# Altium footprint library Package_SO.PcbLib: 393 footprints (part 3 of 25)
Each footprint in its own frame and in the unit in brackets; x right, y up, seen from the top. Pads: shape width x height; smd on the part's side, far side on the other; paste and mask are expansions set on the pad; w line width, h text height; cw(c..) or ccw(c..) is an arc to the next point about the centre after c.
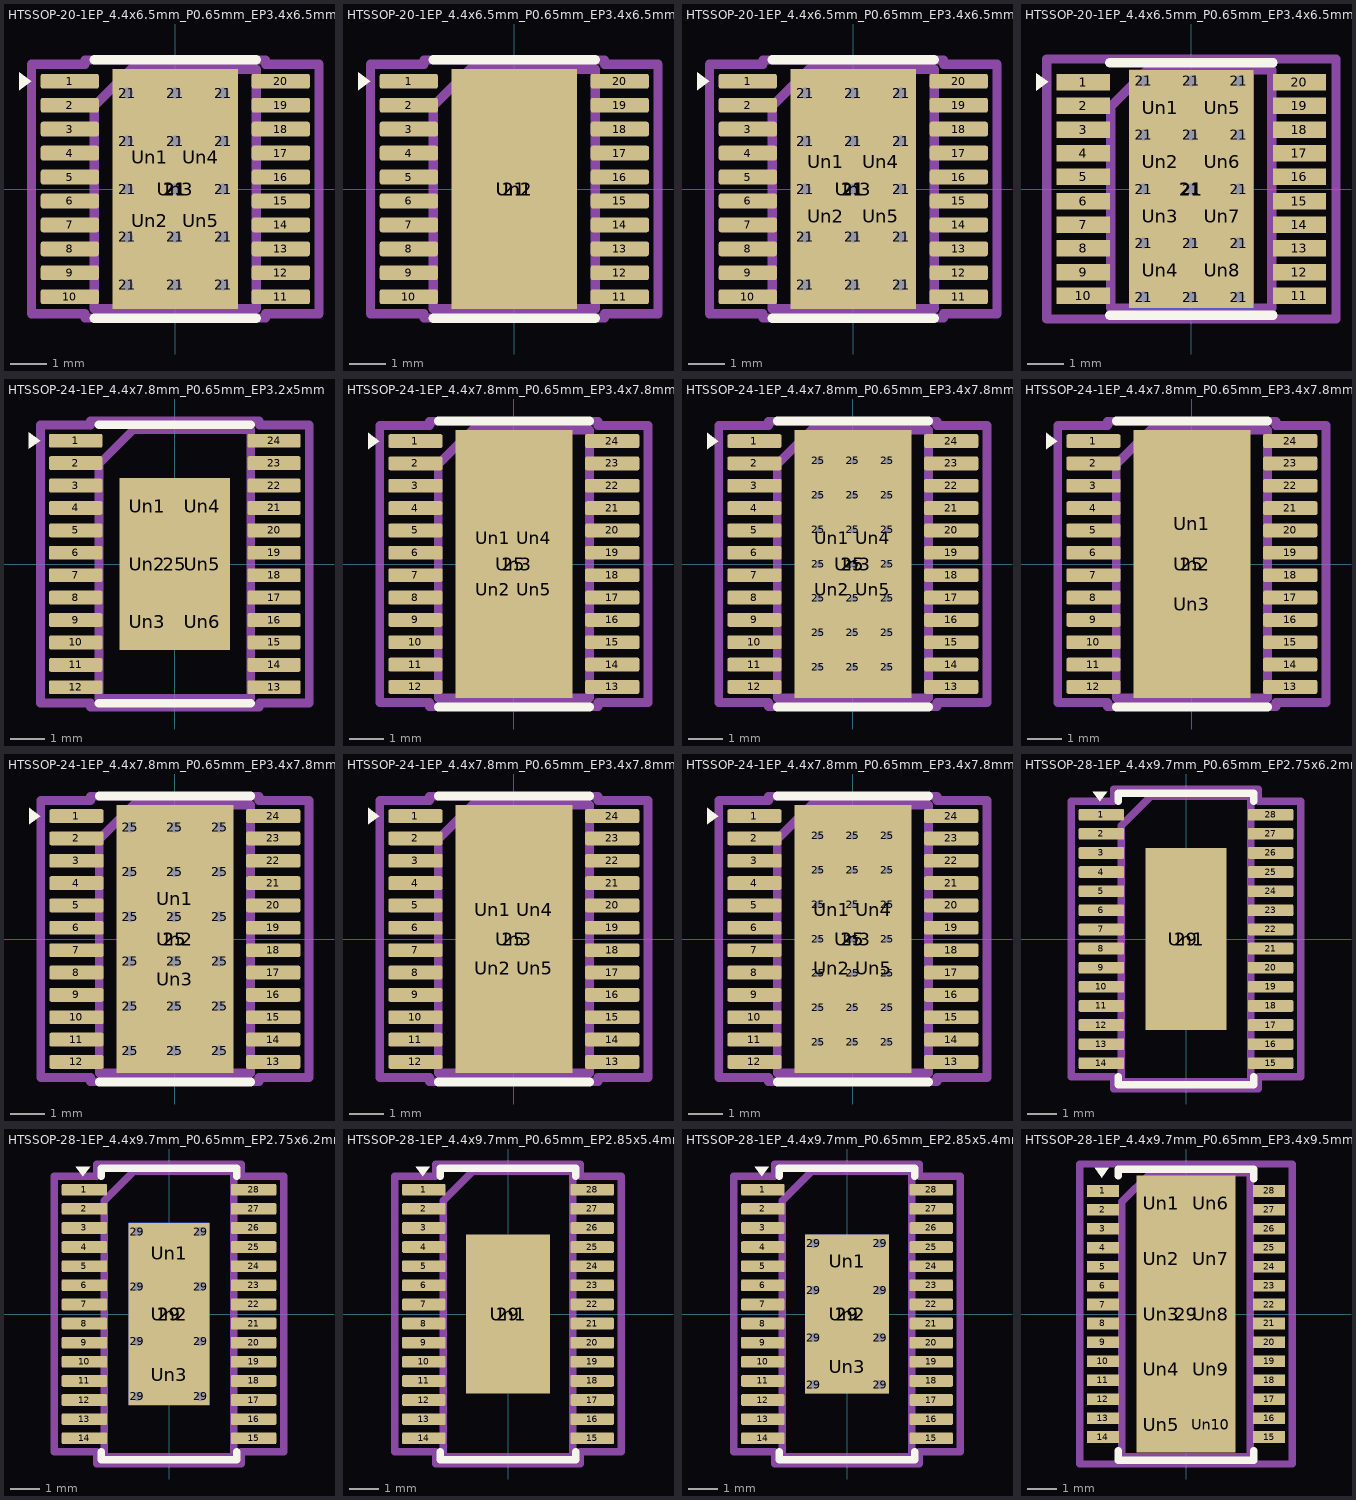
[diagram p2: the footprints below, top view; thin cyan lines are the x and y axes]

## HTSSOP-20-1EP_4.4x6.5mm_P0.65mm_EP3.4x6.5mm_Mask2.75x3.43mm_ThermalVias [mm]
pads (42):
  rrect25% 1.575x0.4 smd: 1(-2.863,2.925) 2(-2.863,2.275) 3(-2.863,1.625) 4(-2.863,0.975) 5(-2.863,0.325) 6(-2.863,-0.325) 7(-2.863,-0.975) 8(-2.863,-1.625) 9(-2.863,-2.275) 10(-2.863,-2.925) 11(2.863,-2.925) 12(2.863,-2.275) 13(2.863,-1.625) 14(2.863,-0.975) 15(2.863,-0.325) 16(2.863,0.325) 17(2.863,0.975) 18(2.863,1.625) 19(2.863,2.275) 20(2.863,2.925)
  round 0.6 hole 0.3: 21(-1.3,-2.6) 21(-1.3,-1.3) 21(-1.3,0) 21(-1.3,1.3) 21(-1.3,2.6) 21(0,-2.6) 21(0,-1.3) 21(0,0) 21(0,1.3) 21(0,2.6) 21(1.3,-2.6) 21(1.3,-1.3) 21(1.3,0) 21(1.3,1.3) 21(1.3,2.6)
  rect 3.4x6.5 smd: 21(0,0)
  rect 3.2x5.8 smd far side: 21(0,0)
  rrect23% 1.11x1.38 on Top Paste: Un1(-0.69,0.86) Un2(-0.69,-0.86) Un4(0.69,0.86) Un5(0.69,-0.86)
  rect 2.75x3.43 on Top Solder: Un3(0,0)
F.SilkS:
  region: -3.91,2.925 -4.24,2.685 -4.24,3.165
  lines w0.254: -2.2,-3.51 0,-3.51 2.2,-3.51 ; -2.2,3.51 0,3.51 2.2,3.51
Top Assembly:
  lines w0.254: -2.2,-3.25 2.2,-3.25 2.2,3.25 -1.2,3.25 -2.2,2.25 -2.2,-3.25
  text "'.Designator'" at -4.047,-0.84 h1
Top Courtyard:
  lines w0.254: -3.9,-3.38 -2.45,-3.38 -2.45,-3.5 2.45,-3.5 2.45,-3.38 3.9,-3.38 3.9,3.38 2.45,3.38 2.45,3.5 -2.45,3.5 -2.45,3.38 -3.9,3.38 -3.9,-3.38
Top Designator:
  text ".Designator" at -7.724,-0.508 h1.52

## HTSSOP-20-1EP_4.4x6.5mm_P0.65mm_EP3.4x6.5mm_Mask2.96x2.96mm [mm]
pads (23):
  rrect25% 1.575x0.4 smd: 1(-2.863,2.925) 2(-2.863,2.275) 3(-2.863,1.625) 4(-2.863,0.975) 5(-2.863,0.325) 6(-2.863,-0.325) 7(-2.863,-0.975) 8(-2.863,-1.625) 9(-2.863,-2.275) 10(-2.863,-2.925) 11(2.863,-2.925) 12(2.863,-2.275) 13(2.863,-1.625) 14(2.863,-0.975) 15(2.863,-0.325) 16(2.863,0.325) 17(2.863,0.975) 18(2.863,1.625) 19(2.863,2.275) 20(2.863,2.925)
  rect 3.4x6.5 smd: 21(0,0)
  rrect10% 2.39x2.39 on Top Paste: Un1(0,0)
  rect 2.96x2.96 on Top Solder: Un2(0,0)
F.SilkS:
  region: -3.91,2.925 -4.24,2.685 -4.24,3.165
  lines w0.254: -2.2,-3.51 0,-3.51 2.2,-3.51 ; -2.2,3.51 0,3.51 2.2,3.51
Top Assembly:
  lines w0.254: -2.2,-3.25 2.2,-3.25 2.2,3.25 -1.2,3.25 -2.2,2.25 -2.2,-3.25
  text "'.Designator'" at -4.047,-0.84 h1
Top Courtyard:
  lines w0.254: -3.9,-3.38 -2.45,-3.38 -2.45,-3.5 2.45,-3.5 2.45,-3.38 3.9,-3.38 3.9,3.38 2.45,3.38 2.45,3.5 -2.45,3.5 -2.45,3.38 -3.9,3.38 -3.9,-3.38
Top Designator:
  text ".Designator" at -7.724,-0.508 h1.52

## HTSSOP-20-1EP_4.4x6.5mm_P0.65mm_EP3.4x6.5mm_Mask2.96x2.96mm_ThermalVias [mm]
pads (42):
  rrect25% 1.575x0.4 smd: 1(-2.863,2.925) 2(-2.863,2.275) 3(-2.863,1.625) 4(-2.863,0.975) 5(-2.863,0.325) 6(-2.863,-0.325) 7(-2.863,-0.975) 8(-2.863,-1.625) 9(-2.863,-2.275) 10(-2.863,-2.925) 11(2.863,-2.925) 12(2.863,-2.275) 13(2.863,-1.625) 14(2.863,-0.975) 15(2.863,-0.325) 16(2.863,0.325) 17(2.863,0.975) 18(2.863,1.625) 19(2.863,2.275) 20(2.863,2.925)
  round 0.6 hole 0.3: 21(-1.3,-2.6) 21(-1.3,-1.3) 21(-1.3,0) 21(-1.3,1.3) 21(-1.3,2.6) 21(0,-2.6) 21(0,-1.3) 21(0,0) 21(0,1.3) 21(0,2.6) 21(1.3,-2.6) 21(1.3,-1.3) 21(1.3,0) 21(1.3,1.3) 21(1.3,2.6)
  rect 3.4x6.5 smd: 21(0,0)
  rect 3.2x5.8 smd far side: 21(0,0)
  rrect21% 1.19x1.19 on Top Paste: Un1(-0.74,0.74) Un2(-0.74,-0.74) Un4(0.74,0.74) Un5(0.74,-0.74)
  rect 2.96x2.96 on Top Solder: Un3(0,0)
F.SilkS:
  region: -3.91,2.925 -4.24,2.685 -4.24,3.165
  lines w0.254: -2.2,-3.51 0,-3.51 2.2,-3.51 ; -2.2,3.51 0,3.51 2.2,3.51
Top Assembly:
  lines w0.254: -2.2,-3.25 2.2,-3.25 2.2,3.25 -1.2,3.25 -2.2,2.25 -2.2,-3.25
  text "'.Designator'" at -4.047,-0.84 h1
Top Courtyard:
  lines w0.254: -3.9,-3.38 -2.45,-3.38 -2.45,-3.5 2.45,-3.5 2.45,-3.38 3.9,-3.38 3.9,3.38 2.45,3.38 2.45,3.5 -2.45,3.5 -2.45,3.38 -3.9,3.38 -3.9,-3.38
Top Designator:
  text ".Designator" at -7.724,-0.508 h1.52

## HTSSOP-20-1EP_4.4x6.5mm_P0.65mm_EP3.4x6.5mm_ThermalVias [mm]
pads (45):
  rect 1.45x0.45 smd: 1(-2.95,2.92) 2(-2.95,2.27) 3(-2.95,1.62) 4(-2.95,0.97) 5(-2.95,0.33) 6(-2.95,-0.33) 7(-2.95,-0.97) 8(-2.95,-1.62) 9(-2.95,-2.27) 10(-2.95,-2.92) 11(2.95,-2.92) 12(2.95,-2.27) 13(2.95,-1.62) 14(2.95,-0.97) 15(2.95,-0.33) 16(2.95,0.33) 17(2.95,0.97) 18(2.95,1.62) 19(2.95,2.27) 20(2.95,2.92)
  round 0.6 hole 0.3: 21(-1.3,-2.95) 21(-1.3,-1.475) 21(-1.3,0) 21(-1.3,1.475) 21(-1.3,2.95) 21(0,-2.95) 21(0,-1.475) 21(0,0) 21(0,1.475) 21(0,2.95) 21(1.3,-2.95) 21(1.3,-1.475) 21(1.3,0) 21(1.3,1.475) 21(1.3,2.95)
  rect 3.4x6.5 smd: 21(0,0)
  rect 3.4x6.5 smd far side: 21(0,0)
  rect 1.4x1.075 on Top Paste: Un1(-0.85,2.213) Un2(-0.85,0.737) Un3(-0.85,-0.737) Un4(-0.85,-2.213) Un5(0.85,2.213) Un6(0.85,0.737) Un7(0.85,-0.737) Un8(0.85,-2.213)
F.SilkS:
  region: -3.91,2.925 -4.24,2.685 -4.24,3.165
  lines w0.254: -2.23,-3.45 2.23,-3.45 ; -2.23,3.45 2.23,3.45
Top Assembly:
  lines w0.254: -2.2,-3.25 2.2,-3.25 2.2,3.25 -1.2,3.25 -2.2,2.25 -2.2,-3.25
  text "'.Designator'" at -3.267,-0.702 h0.8
Top Courtyard:
  lines w0.254: -3.95,-3.55 3.95,-3.55 3.95,3.55 -3.95,3.55 -3.95,-3.55
Top Designator:
  text ".Designator" at -7.699,-0.508 h1.52

## HTSSOP-24-1EP_4.4x7.8mm_P0.65mm_EP3.2x5mm [mm]
pads (31):
  rrect25% 1.55x0.4 smd: 1(-2.875,3.575) 2(-2.875,2.925) 3(-2.875,2.275) 4(-2.875,1.625) 5(-2.875,0.975) 6(-2.875,0.325) 7(-2.875,-0.325) 8(-2.875,-0.975) 9(-2.875,-1.625) 10(-2.875,-2.275) 11(-2.875,-2.925) 12(-2.875,-3.575) 13(2.875,-3.575) 14(2.875,-2.925) 15(2.875,-2.275) 16(2.875,-1.625) 17(2.875,-0.975) 18(2.875,-0.325) 19(2.875,0.325) 20(2.875,0.975) 21(2.875,1.625) 22(2.875,2.275) 23(2.875,2.925) 24(2.875,3.575)
  rect 3.2x5 smd: 25(0,0)
  rrect19% 1.29x1.34 on Top Paste: Un1(-0.8,1.67) Un2(-0.8,0) Un3(-0.8,-1.67) Un4(0.8,1.67) Un5(0.8,0) Un6(0.8,-1.67)
F.SilkS:
  region: -3.91,3.575 -4.24,3.335 -4.24,3.815
  lines w0.254: -2.2,-4.035 0,-4.035 2.2,-4.035 ; -2.2,4.035 0,4.035 2.2,4.035
Top Assembly:
  lines w0.254: -2.2,-3.9 2.2,-3.9 2.2,3.9 -1.2,3.9 -2.2,2.9 -2.2,-3.9
  text "'.Designator'" at -4.047,-0.84 h1
Top Courtyard:
  lines w0.254: -3.9,-4.03 -2.45,-4.03 -2.45,-4.15 2.45,-4.15 2.45,-4.03 3.9,-4.03 3.9,4.03 2.45,4.03 2.45,4.15 -2.45,4.15 -2.45,4.03 -3.9,4.03 -3.9,-4.03
Top Designator:
  text ".Designator" at -7.724,-0.508 h1.52

## HTSSOP-24-1EP_4.4x7.8mm_P0.65mm_EP3.4x7.8mm_Mask2.4x2.98mm [mm]
pads (30):
  rrect25% 1.575x0.4 smd: 1(-2.863,3.575) 2(-2.863,2.925) 3(-2.863,2.275) 4(-2.863,1.625) 5(-2.863,0.975) 6(-2.863,0.325) 7(-2.863,-0.325) 8(-2.863,-0.975) 9(-2.863,-1.625) 10(-2.863,-2.275) 11(-2.863,-2.925) 12(-2.863,-3.575) 13(2.863,-3.575) 14(2.863,-2.925) 15(2.863,-2.275) 16(2.863,-1.625) 17(2.863,-0.975) 18(2.863,-0.325) 19(2.863,0.325) 20(2.863,0.975) 21(2.863,1.625) 22(2.863,2.275) 23(2.863,2.925) 24(2.863,3.575)
  rect 3.4x7.8 smd: 25(0,0)
  rrect25% 0.97x1.2 on Top Paste: Un1(-0.6,0.745) Un2(-0.6,-0.745) Un4(0.6,0.745) Un5(0.6,-0.745)
  rect 2.4x2.98 on Top Solder: Un3(0,0)
F.SilkS:
  region: -3.91,3.575 -4.24,3.335 -4.24,3.815
  lines w0.254: -2.2,-4.16 0,-4.16 2.2,-4.16 ; -2.2,4.16 0,4.16 2.2,4.16
Top Assembly:
  lines w0.254: -2.2,-3.9 2.2,-3.9 2.2,3.9 -1.2,3.9 -2.2,2.9 -2.2,-3.9
  text "'.Designator'" at -4.047,-0.84 h1
Top Courtyard:
  lines w0.254: -3.9,-4.03 -2.45,-4.03 -2.45,-4.15 2.45,-4.15 2.45,-4.03 3.9,-4.03 3.9,4.03 2.45,4.03 2.45,4.15 -2.45,4.15 -2.45,4.03 -3.9,4.03 -3.9,-4.03
Top Designator:
  text ".Designator" at -7.724,-0.508 h1.52

## HTSSOP-24-1EP_4.4x7.8mm_P0.65mm_EP3.4x7.8mm_Mask2.4x2.98mm_ThermalVias [mm]
pads (52):
  rrect25% 1.575x0.4 smd: 1(-2.863,3.575) 2(-2.863,2.925) 3(-2.863,2.275) 4(-2.863,1.625) 5(-2.863,0.975) 6(-2.863,0.325) 7(-2.863,-0.325) 8(-2.863,-0.975) 9(-2.863,-1.625) 10(-2.863,-2.275) 11(-2.863,-2.925) 12(-2.863,-3.575) 13(2.863,-3.575) 14(2.863,-2.925) 15(2.863,-2.275) 16(2.863,-1.625) 17(2.863,-0.975) 18(2.863,-0.325) 19(2.863,0.325) 20(2.863,0.975) 21(2.863,1.625) 22(2.863,2.275) 23(2.863,2.925) 24(2.863,3.575)
  round 0.5 hole 0.2: 25(-1,-3) 25(-1,-2) 25(-1,-1) 25(-1,0) 25(-1,1) 25(-1,2) 25(-1,3) 25(0,-3) 25(0,-2) 25(0,-1) 25(0,0) 25(0,1) 25(0,2) 25(0,3) 25(1,-3) 25(1,-2) 25(1,-1) 25(1,0) 25(1,1) 25(1,2) 25(1,3)
  rect 3.4x7.8 smd: 25(0,0)
  rect 2.5x6.5 smd far side: 25(0,0)
  rrect25% 0.97x1.2 on Top Paste: Un1(-0.6,0.745) Un2(-0.6,-0.745) Un4(0.6,0.745) Un5(0.6,-0.745)
  rect 2.4x2.98 on Top Solder: Un3(0,0)
F.SilkS:
  region: -3.91,3.575 -4.24,3.335 -4.24,3.815
  lines w0.254: -2.2,-4.16 0,-4.16 2.2,-4.16 ; -2.2,4.16 0,4.16 2.2,4.16
Top Assembly:
  lines w0.254: -2.2,-3.9 2.2,-3.9 2.2,3.9 -1.2,3.9 -2.2,2.9 -2.2,-3.9
  text "'.Designator'" at -4.047,-0.84 h1
Top Courtyard:
  lines w0.254: -3.9,-4.03 -2.45,-4.03 -2.45,-4.15 2.45,-4.15 2.45,-4.03 3.9,-4.03 3.9,4.03 2.45,4.03 2.45,4.15 -2.45,4.15 -2.45,4.03 -3.9,4.03 -3.9,-4.03
Top Designator:
  text ".Designator" at -7.724,-0.508 h1.52

## HTSSOP-24-1EP_4.4x7.8mm_P0.65mm_EP3.4x7.8mm_Mask2.4x4.68mm [mm]
pads (28):
  rrect25% 1.575x0.4 smd: 1(-2.863,3.575) 2(-2.863,2.925) 3(-2.863,2.275) 4(-2.863,1.625) 5(-2.863,0.975) 6(-2.863,0.325) 7(-2.863,-0.325) 8(-2.863,-0.975) 9(-2.863,-1.625) 10(-2.863,-2.275) 11(-2.863,-2.925) 12(-2.863,-3.575) 13(2.863,-3.575) 14(2.863,-2.925) 15(2.863,-2.275) 16(2.863,-1.625) 17(2.863,-0.975) 18(2.863,-0.325) 19(2.863,0.325) 20(2.863,0.975) 21(2.863,1.625) 22(2.863,2.275) 23(2.863,2.925) 24(2.863,3.575)
  rect 3.4x7.8 smd: 25(0,0)
  rrect13% 1.93x1.89 on Top Paste: Un1(0,1.17) Un3(0,-1.17)
  rect 2.4x4.68 on Top Solder: Un2(0,0)
F.SilkS:
  region: -3.91,3.575 -4.24,3.335 -4.24,3.815
  lines w0.254: -2.2,-4.16 0,-4.16 2.2,-4.16 ; -2.2,4.16 0,4.16 2.2,4.16
Top Assembly:
  lines w0.254: -2.2,-3.9 2.2,-3.9 2.2,3.9 -1.2,3.9 -2.2,2.9 -2.2,-3.9
  text "'.Designator'" at -4.047,-0.84 h1
Top Courtyard:
  lines w0.254: -3.9,-4.03 -2.45,-4.03 -2.45,-4.15 2.45,-4.15 2.45,-4.03 3.9,-4.03 3.9,4.03 2.45,4.03 2.45,4.15 -2.45,4.15 -2.45,4.03 -3.9,4.03 -3.9,-4.03
Top Designator:
  text ".Designator" at -7.724,-0.508 h1.52

## HTSSOP-24-1EP_4.4x7.8mm_P0.65mm_EP3.4x7.8mm_Mask2.4x4.68mm_ThermalVias [mm]
pads (47):
  rrect25% 1.575x0.4 smd: 1(-2.863,3.575) 2(-2.863,2.925) 3(-2.863,2.275) 4(-2.863,1.625) 5(-2.863,0.975) 6(-2.863,0.325) 7(-2.863,-0.325) 8(-2.863,-0.975) 9(-2.863,-1.625) 10(-2.863,-2.275) 11(-2.863,-2.925) 12(-2.863,-3.575) 13(2.863,-3.575) 14(2.863,-2.925) 15(2.863,-2.275) 16(2.863,-1.625) 17(2.863,-0.975) 18(2.863,-0.325) 19(2.863,0.325) 20(2.863,0.975) 21(2.863,1.625) 22(2.863,2.275) 23(2.863,2.925) 24(2.863,3.575)
  round 0.6 hole 0.3: 25(-1.3,-3.25) 25(-1.3,-1.95) 25(-1.3,-0.65) 25(-1.3,0.65) 25(-1.3,1.95) 25(-1.3,3.25) 25(0,-3.25) 25(0,-1.95) 25(0,-0.65) 25(0,0.65) 25(0,1.95) 25(0,3.25) 25(1.3,-3.25) 25(1.3,-1.95) 25(1.3,-0.65) 25(1.3,0.65) 25(1.3,1.95) 25(1.3,3.25)
  rect 3.4x7.8 smd: 25(0,0)
  rect 3.2x7.1 smd far side: 25(0,0)
  rrect13% 1.93x1.89 on Top Paste: Un1(0,1.17) Un3(0,-1.17)
  rect 2.4x4.68 on Top Solder: Un2(0,0)
F.SilkS:
  region: -3.91,3.575 -4.24,3.335 -4.24,3.815
  lines w0.254: -2.2,-4.16 0,-4.16 2.2,-4.16 ; -2.2,4.16 0,4.16 2.2,4.16
Top Assembly:
  lines w0.254: -2.2,-3.9 2.2,-3.9 2.2,3.9 -1.2,3.9 -2.2,2.9 -2.2,-3.9
  text "'.Designator'" at -4.047,-0.84 h1
Top Courtyard:
  lines w0.254: -3.9,-4.03 -2.45,-4.03 -2.45,-4.15 2.45,-4.15 2.45,-4.03 3.9,-4.03 3.9,4.03 2.45,4.03 2.45,4.15 -2.45,4.15 -2.45,4.03 -3.9,4.03 -3.9,-4.03
Top Designator:
  text ".Designator" at -7.724,-0.508 h1.52

## HTSSOP-24-1EP_4.4x7.8mm_P0.65mm_EP3.4x7.8mm_Mask2.44x3.42mm [mm]
pads (30):
  rrect25% 1.575x0.4 smd: 1(-2.863,3.575) 2(-2.863,2.925) 3(-2.863,2.275) 4(-2.863,1.625) 5(-2.863,0.975) 6(-2.863,0.325) 7(-2.863,-0.325) 8(-2.863,-0.975) 9(-2.863,-1.625) 10(-2.863,-2.275) 11(-2.863,-2.925) 12(-2.863,-3.575) 13(2.863,-3.575) 14(2.863,-2.925) 15(2.863,-2.275) 16(2.863,-1.625) 17(2.863,-0.975) 18(2.863,-0.325) 19(2.863,0.325) 20(2.863,0.975) 21(2.863,1.625) 22(2.863,2.275) 23(2.863,2.925) 24(2.863,3.575)
  rect 3.4x7.8 smd: 25(0,0)
  rrect25% 0.98x1.38 on Top Paste: Un1(-0.61,0.855) Un2(-0.61,-0.855) Un4(0.61,0.855) Un5(0.61,-0.855)
  rect 2.44x3.42 on Top Solder: Un3(0,0)
F.SilkS:
  region: -3.91,3.575 -4.24,3.335 -4.24,3.815
  lines w0.254: -2.2,-4.16 0,-4.16 2.2,-4.16 ; -2.2,4.16 0,4.16 2.2,4.16
Top Assembly:
  lines w0.254: -2.2,-3.9 2.2,-3.9 2.2,3.9 -1.2,3.9 -2.2,2.9 -2.2,-3.9
  text "'.Designator'" at -4.047,-0.84 h1
Top Courtyard:
  lines w0.254: -3.9,-4.03 -2.45,-4.03 -2.45,-4.15 2.45,-4.15 2.45,-4.03 3.9,-4.03 3.9,4.03 2.45,4.03 2.45,4.15 -2.45,4.15 -2.45,4.03 -3.9,4.03 -3.9,-4.03
Top Designator:
  text ".Designator" at -7.724,-0.508 h1.52

## HTSSOP-24-1EP_4.4x7.8mm_P0.65mm_EP3.4x7.8mm_Mask2.44x3.42mm_ThermalVias [mm]
pads (52):
  rrect25% 1.575x0.4 smd: 1(-2.863,3.575) 2(-2.863,2.925) 3(-2.863,2.275) 4(-2.863,1.625) 5(-2.863,0.975) 6(-2.863,0.325) 7(-2.863,-0.325) 8(-2.863,-0.975) 9(-2.863,-1.625) 10(-2.863,-2.275) 11(-2.863,-2.925) 12(-2.863,-3.575) 13(2.863,-3.575) 14(2.863,-2.925) 15(2.863,-2.275) 16(2.863,-1.625) 17(2.863,-0.975) 18(2.863,-0.325) 19(2.863,0.325) 20(2.863,0.975) 21(2.863,1.625) 22(2.863,2.275) 23(2.863,2.925) 24(2.863,3.575)
  round 0.5 hole 0.2: 25(-1,-3) 25(-1,-2) 25(-1,-1) 25(-1,0) 25(-1,1) 25(-1,2) 25(-1,3) 25(0,-3) 25(0,-2) 25(0,-1) 25(0,0) 25(0,1) 25(0,2) 25(0,3) 25(1,-3) 25(1,-2) 25(1,-1) 25(1,0) 25(1,1) 25(1,2) 25(1,3)
  rect 3.4x7.8 smd: 25(0,0)
  rect 2.5x6.5 smd far side: 25(0,0)
  rrect25% 0.98x1.38 on Top Paste: Un1(-0.61,0.855) Un2(-0.61,-0.855) Un4(0.61,0.855) Un5(0.61,-0.855)
  rect 2.44x3.42 on Top Solder: Un3(0,0)
F.SilkS:
  region: -3.91,3.575 -4.24,3.335 -4.24,3.815
  lines w0.254: -2.2,-4.16 0,-4.16 2.2,-4.16 ; -2.2,4.16 0,4.16 2.2,4.16
Top Assembly:
  lines w0.254: -2.2,-3.9 2.2,-3.9 2.2,3.9 -1.2,3.9 -2.2,2.9 -2.2,-3.9
  text "'.Designator'" at -4.047,-0.84 h1
Top Courtyard:
  lines w0.254: -3.9,-4.03 -2.45,-4.03 -2.45,-4.15 2.45,-4.15 2.45,-4.03 3.9,-4.03 3.9,4.03 2.45,4.03 2.45,4.15 -2.45,4.15 -2.45,4.03 -3.9,4.03 -3.9,-4.03
Top Designator:
  text ".Designator" at -7.724,-0.508 h1.52

## HTSSOP-28-1EP_4.4x9.7mm_P0.65mm_EP2.75x6.2mm [mm]
pads (30):
  rrect25% 1.55x0.4 smd: 1(-2.875,4.225) 2(-2.875,3.575) 3(-2.875,2.925) 4(-2.875,2.275) 5(-2.875,1.625) 6(-2.875,0.975) 7(-2.875,0.325) 8(-2.875,-0.325) 9(-2.875,-0.975) 10(-2.875,-1.625) 11(-2.875,-2.275) 12(-2.875,-2.925) 13(-2.875,-3.575) 14(-2.875,-4.225) 15(2.875,-4.225) 16(2.875,-3.575) 17(2.875,-2.925) 18(2.875,-2.275) 19(2.875,-1.625) 20(2.875,-0.975) 21(2.875,-0.325) 22(2.875,0.325) 23(2.875,0.975) 24(2.875,1.625) 25(2.875,2.275) 26(2.875,2.925) 27(2.875,3.575) 28(2.875,4.225)
  rect 2.75x6.2 smd: 29(0,0)
  rrect11% 2.22x5 on Top Paste: Un1(0,0)
F.SilkS:
  region: -2.925,4.685 -3.165,5.015 -2.685,5.015
  lines w0.254: -2.31,-4.685 -2.31,-4.96 0,-4.96 2.31,-4.96 2.31,-4.685 ; -2.31,4.685 -2.31,4.96 0,4.96 2.31,4.96 2.31,4.685
Top Assembly:
  lines w0.254: -2.2,-4.85 2.2,-4.85 2.2,4.85 -1.2,4.85 -2.2,3.85 -2.2,-4.85
  text "'.Designator'" at -4.047,-0.84 h1
Top Courtyard:
  lines w0.254: -3.9,-4.68 -2.45,-4.68 -2.45,-5.1 2.45,-5.1 2.45,-4.68 3.9,-4.68 3.9,4.68 2.45,4.68 2.45,5.1 -2.45,5.1 -2.45,4.68 -3.9,4.68 -3.9,-4.68
Top Designator:
  text ".Designator" at -7.702,-0.508 h1.52

## HTSSOP-28-1EP_4.4x9.7mm_P0.65mm_EP2.75x6.2mm_ThermalVias [mm]
pads (41):
  rrect25% 1.55x0.4 smd: 1(-2.875,4.225) 2(-2.875,3.575) 3(-2.875,2.925) 4(-2.875,2.275) 5(-2.875,1.625) 6(-2.875,0.975) 7(-2.875,0.325) 8(-2.875,-0.325) 9(-2.875,-0.975) 10(-2.875,-1.625) 11(-2.875,-2.275) 12(-2.875,-2.925) 13(-2.875,-3.575) 14(-2.875,-4.225) 15(2.875,-4.225) 16(2.875,-3.575) 17(2.875,-2.925) 18(2.875,-2.275) 19(2.875,-1.625) 20(2.875,-0.975) 21(2.875,-0.325) 22(2.875,0.325) 23(2.875,0.975) 24(2.875,1.625) 25(2.875,2.275) 26(2.875,2.925) 27(2.875,3.575) 28(2.875,4.225)
  round 0.6 hole 0.3: 29(-1.075,-2.8) 29(-1.075,-0.933) 29(-1.075,0.933) 29(-1.075,2.8) 29(1.075,-2.8) 29(1.075,-0.933) 29(1.075,0.933) 29(1.075,2.8)
  rect 2.75x6.2 smd: 29(0,0)
  rect 2.75x6.2 smd far side: 29(0,0)
  rrect15% 2.22x1.67 on Top Paste: Un1(0,2.07) Un2(0,0) Un3(0,-2.07)
F.SilkS:
  region: -2.925,4.685 -3.165,5.015 -2.685,5.015
  lines w0.254: -2.31,-4.685 -2.31,-4.96 0,-4.96 2.31,-4.96 2.31,-4.685 ; -2.31,4.685 -2.31,4.96 0,4.96 2.31,4.96 2.31,4.685
Top Assembly:
  lines w0.254: -2.2,-4.85 2.2,-4.85 2.2,4.85 -1.2,4.85 -2.2,3.85 -2.2,-4.85
  text "'.Designator'" at -4.047,-0.84 h1
Top Courtyard:
  lines w0.254: -3.9,-4.68 -2.45,-4.68 -2.45,-5.1 2.45,-5.1 2.45,-4.68 3.9,-4.68 3.9,4.68 2.45,4.68 2.45,5.1 -2.45,5.1 -2.45,4.68 -3.9,4.68 -3.9,-4.68
Top Designator:
  text ".Designator" at -7.702,-0.508 h1.52

## HTSSOP-28-1EP_4.4x9.7mm_P0.65mm_EP2.85x5.4mm [mm]
pads (30):
  rrect25% 1.475x0.4 smd: 1(-2.863,4.225) 2(-2.863,3.575) 3(-2.863,2.925) 4(-2.863,2.275) 5(-2.863,1.625) 6(-2.863,0.975) 7(-2.863,0.325) 8(-2.863,-0.325) 9(-2.863,-0.975) 10(-2.863,-1.625) 11(-2.863,-2.275) 12(-2.863,-2.925) 13(-2.863,-3.575) 14(-2.863,-4.225) 15(2.863,-4.225) 16(2.863,-3.575) 17(2.863,-2.925) 18(2.863,-2.275) 19(2.863,-1.625) 20(2.863,-0.975) 21(2.863,-0.325) 22(2.863,0.325) 23(2.863,0.975) 24(2.863,1.625) 25(2.863,2.275) 26(2.863,2.925) 27(2.863,3.575) 28(2.863,4.225)
  rect 2.85x5.4 smd: 29(0,0)
  rrect11% 2.3x4.35 on Top Paste: Un1(0,0)
F.SilkS:
  region: -2.9,4.685 -3.14,5.015 -2.66,5.015
  lines w0.254: -2.31,-4.685 -2.31,-4.96 0,-4.96 2.31,-4.96 2.31,-4.685 ; -2.31,4.685 -2.31,4.96 0,4.96 2.31,4.96 2.31,4.685
Top Assembly:
  lines w0.254: -2.2,-4.85 2.2,-4.85 2.2,4.85 -1.2,4.85 -2.2,3.85 -2.2,-4.85
  text "'.Designator'" at -4.047,-0.84 h1
Top Courtyard:
  lines w0.254: -3.85,-4.68 -2.45,-4.68 -2.45,-5.1 2.45,-5.1 2.45,-4.68 3.85,-4.68 3.85,4.68 2.45,4.68 2.45,5.1 -2.45,5.1 -2.45,4.68 -3.85,4.68 -3.85,-4.68
Top Designator:
  text ".Designator" at -7.727,-0.508 h1.52

## HTSSOP-28-1EP_4.4x9.7mm_P0.65mm_EP2.85x5.4mm_ThermalVias [mm]
pads (41):
  rrect25% 1.475x0.4 smd: 1(-2.863,4.225) 2(-2.863,3.575) 3(-2.863,2.925) 4(-2.863,2.275) 5(-2.863,1.625) 6(-2.863,0.975) 7(-2.863,0.325) 8(-2.863,-0.325) 9(-2.863,-0.975) 10(-2.863,-1.625) 11(-2.863,-2.275) 12(-2.863,-2.925) 13(-2.863,-3.575) 14(-2.863,-4.225) 15(2.863,-4.225) 16(2.863,-3.575) 17(2.863,-2.925) 18(2.863,-2.275) 19(2.863,-1.625) 20(2.863,-0.975) 21(2.863,-0.325) 22(2.863,0.325) 23(2.863,0.975) 24(2.863,1.625) 25(2.863,2.275) 26(2.863,2.925) 27(2.863,3.575) 28(2.863,4.225)
  round 0.6 hole 0.3: 29(-1.125,-2.4) 29(-1.125,-0.8) 29(-1.125,0.8) 29(-1.125,2.4) 29(1.125,-2.4) 29(1.125,-0.8) 29(1.125,0.8) 29(1.125,2.4)
  rect 2.85x5.4 smd: 29(0,0)
  rect 2.85x5.4 smd far side: 29(0,0)
  rrect17% 2.3x1.45 on Top Paste: Un1(0,1.8) Un2(0,0) Un3(0,-1.8)
F.SilkS:
  region: -2.9,4.685 -3.14,5.015 -2.66,5.015
  lines w0.254: -2.31,-4.685 -2.31,-4.96 0,-4.96 2.31,-4.96 2.31,-4.685 ; -2.31,4.685 -2.31,4.96 0,4.96 2.31,4.96 2.31,4.685
Top Assembly:
  lines w0.254: -2.2,-4.85 2.2,-4.85 2.2,4.85 -1.2,4.85 -2.2,3.85 -2.2,-4.85
  text "'.Designator'" at -4.047,-0.84 h1
Top Courtyard:
  lines w0.254: -3.85,-4.68 -2.45,-4.68 -2.45,-5.1 2.45,-5.1 2.45,-4.68 3.85,-4.68 3.85,4.68 2.45,4.68 2.45,5.1 -2.45,5.1 -2.45,4.68 -3.85,4.68 -3.85,-4.68
Top Designator:
  text ".Designator" at -7.727,-0.508 h1.52

## HTSSOP-28-1EP_4.4x9.7mm_P0.65mm_EP3.4x9.5mm [mm]
pads (39):
  rect 1.1x0.4 smd: 1(-2.85,4.225) 2(-2.85,3.575) 3(-2.85,2.925) 4(-2.85,2.275) 5(-2.85,1.625) 6(-2.85,0.975) 7(-2.85,0.325) 8(-2.85,-0.325) 9(-2.85,-0.975) 10(-2.85,-1.625) 11(-2.85,-2.275) 12(-2.85,-2.925) 13(-2.85,-3.575) 14(-2.85,-4.225) 15(2.85,-4.225) 16(2.85,-3.575) 17(2.85,-2.925) 18(2.85,-2.275) 19(2.85,-1.625) 20(2.85,-0.975) 21(2.85,-0.325) 22(2.85,0.325) 23(2.85,0.975) 24(2.85,1.625) 25(2.85,2.275) 26(2.85,2.925) 27(2.85,3.575) 28(2.85,4.225)
  rect 3.4x9.5 smd: 29(0,0)
  rect 1.4x1.6 on Top Paste: Un1(-0.85,3.8) Un2(-0.85,1.9) Un3(-0.85,0) Un4(-0.85,-1.9) Un5(-0.85,-3.8) Un6(0.85,3.8) Un7(0.85,1.9) Un8(0.85,0) Un9(0.85,-1.9) Un10(0.85,-3.8)
F.SilkS:
  region: -2.9,4.685 -3.14,5.015 -2.66,5.015
  lines w0.254: -2.325,-4.701 -2.325,-5.026 2.325,-5.026 2.325,-4.701 ; -2.325,4.75 -2.325,4.975 2.325,4.975 2.325,4.65
Top Assembly:
  lines w0.254: -2.2,-4.901 2.2,-4.901 ; -2.2,-4.85 -2.2,3.85 -1.2,4.85 2.2,4.85 2.2,-4.85
  text "'.Designator'" at -3.267,-0.702 h0.8
Top Courtyard:
  lines w0.254: -3.65,-5.15 3.65,-5.15 3.65,5.15 -3.65,5.15 -3.65,-5.15
Top Designator:
  text ".Designator" at -7.618,-0.508 h1.52